# EAGLE library part DP83848CVV (library library)
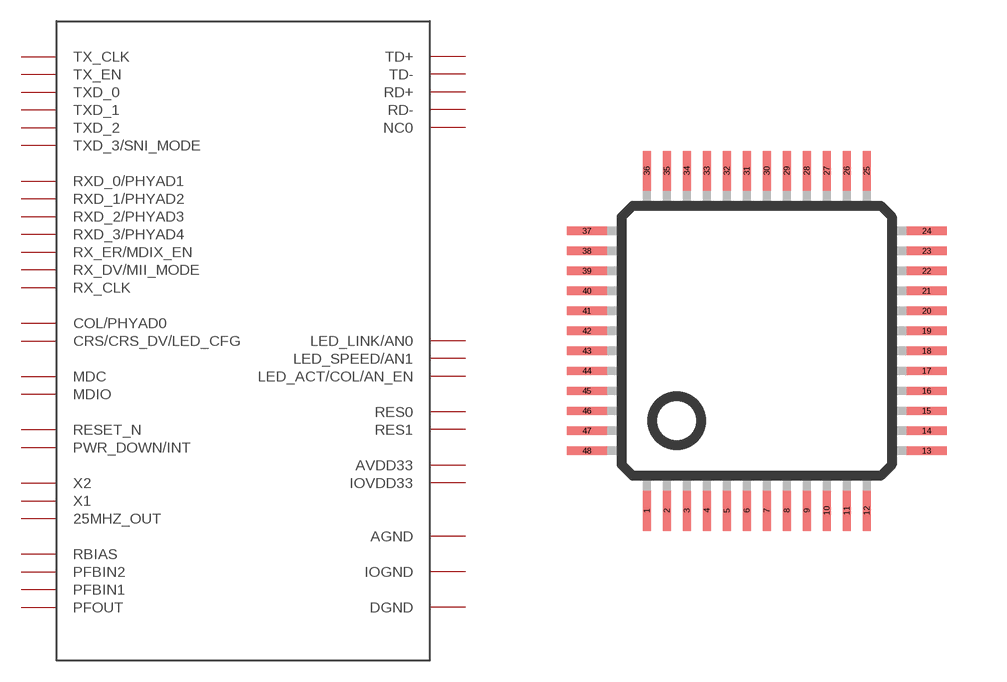
[diagram p0: symbol with the pads of LQFP-44; footprint LQFP-44]

Designator prefix -

## DP83848CVV  [LQFP-44]
1  TX_CLK
2  TX_EN
3  TXD_0
4  TXD_1
5  TXD_2
6  TXD_3/SNI_MODE
7  PWR_DOWN/INT
8  NC0
9  NC0
10  NC0
11  NC0
12  NC0
13  RD-
14  RD+
15  AGND
16  TD-
17  TD+
18  PFBIN1
19  AGND
20  RES0
21  RES1
22  AVDD33
23  PFOUT
24  RBIAS
25  25MHZ_OUT
26  LED_ACT/COL/AN_EN
27  LED_SPEED/AN1
28  LED_LINK/AN0
29  RESET_N
30  MDIO
31  MDC
32  IOVDD33
33  X2
34  X1
35  IOGND
36  DGND
37  PFBIN2
38  RX_CLK
39  RX_DV/MII_MODE
40  CRS/CRS_DV/LED_CFG
41  RX_ER/MDIX_EN
42  COL/PHYAD0
43  RXD_0/PHYAD1
44  RXD_1/PHYAD2
45  RXD_2/PHYAD3
46  RXD_3/PHYAD4
47  IOGND
48  IOVDD33

## Footprint LQFP-44 (pad centres in mm)
smd 0.2 x 1: 1 -1.98,-4.56; 2 -1.48,-4.56; 3 -0.98,-4.56; 4 -0.48,-4.56; 5 0.02,-4.56; 6 0.52,-4.56; 7 1.02,-4.56; 8 1.52,-4.56; 9 2.02,-4.56; 10 2.52,-4.56; 11 3.02,-4.56; 12 3.52,-4.56; 25 3.52,3.94; 26 3.02,3.94; 27 2.52,3.94; 28 2.02,3.94; 29 1.52,3.94; 30 1.02,3.94; 31 0.52,3.94; 32 0.02,3.94; 33 -0.48,3.94; 34 -0.98,3.94; 35 -1.48,3.94; 36 -1.98,3.94
smd 1 x 0.2: 13 5.02,-3.06; 14 5.02,-2.56; 15 5.02,-2.06; 16 5.02,-1.56; 17 5.02,-1.06; 18 5.02,-0.56; 19 5.02,-0.06; 20 5.02,0.44; 21 5.02,0.94; 22 5.02,1.44; 23 5.02,1.94; 24 5.02,2.44; 37 -3.48,2.44; 38 -3.48,1.94; 39 -3.48,1.44; 40 -3.48,0.94; 41 -3.48,0.44; 42 -3.48,-0.06; 43 -3.48,-0.56; 44 -3.48,-1.06; 45 -3.48,-1.56; 46 -3.48,-2.06; 47 -3.48,-2.56; 48 -3.48,-3.06